# EAGLE library part TL072 (library unicorn)
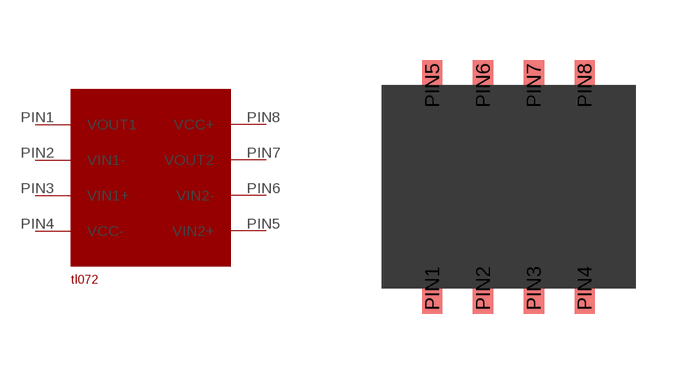
[diagram p3: symbol with the pads of SOIC8; footprint SOIC8]

Designator prefix -

## TL072  [SOIC8]
PIN1  VOUT1
PIN2  VIN1-
PIN3  VIN1+
PIN4  VCC-
PIN5  VIN2+
PIN6  VIN2-
PIN7  VOUT2
PIN8  VCC+

## Footprint SOIC8 (pad centres in mm)
smd 0.508 x 1.27: PIN1 -1.27,-2.54; PIN2 0,-2.54; PIN3 1.27,-2.54; PIN4 2.54,-2.54; PIN5 -1.27,2.54; PIN6 0,2.54; PIN7 1.27,2.54; PIN8 2.54,2.54